# Altium integrated library SN65HVD230DR.IntLib: 1 symbol
Pins are listed as number, name and electrical type; pins without a type are passive.

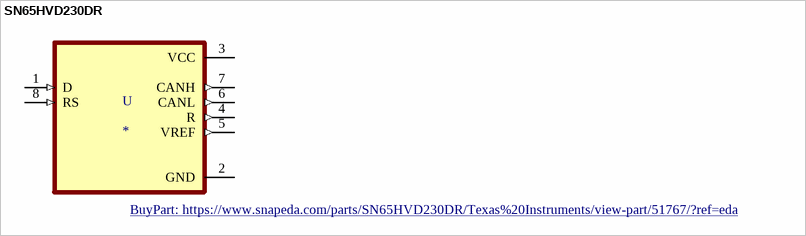
[diagram p0: symbol SN65HVD230DR]

## SN65HVD230DR
designator U
3.3 V CAN Transceiver with Standby Mode 8-SOIC -40 to 85; MP: SN65HVD230DR; MF: Texas Instruments; Package: SOIC-8 Texas Instruments; DigiKey-Purchase-URL: https://snapeda.com/shop?store=DigiKey&id=51767; Mouser-Purchase-URL: https://snapeda.com/shop?store=Mouser&id=51767; Value: *; Arrow_Electronics-Purchase-URL: https://snapeda.com/shop?store=Arrow+Electronics&id=51767; Availability: Good; SnapEDA_Link: https://www.snapeda.com/parts/SN65HVD230DR/Texas%20Instruments/view-part/51767/?ref=snap; Price: None; Texas_Instruments-Purchase-URL: https://snapeda.com/shop?store=Texas+Instruments&id=51767; BuyPart: https://www.snapeda.com/parts/SN65HVD230DR/Texas%20Instruments/view-part/51767/?ref=eda
footprint SOIC127P599X175-8N
pins: 1 D (in), 2 GND (power), 3 VCC (power), 4 R (out), 5 VREF (out), 6 CANL (out), 7 CANH (out), 8 RS (in)